# Altium schematic symbol library LTR-91400.SchLib: 1 symbol
Pins are listed as number, name and electrical type; pins without a type are passive.

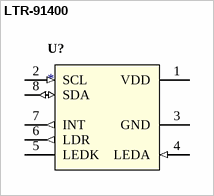
[diagram p0: symbol LTR-91400]

## LTR-91400
designator U?
OPTICAL SENSOR
pins: 1 VDD (power), 2 SCL (in), 3 GND (power), 4 LEDA (in), 5 LEDK, 6 LDR (out), 7 INT (out), 8 SDA (io)